# EAGLE library part M50-3500542 (library Custom Libary v23)
Header 2x5way DIL VERT Pin HARWIN M50-35 Series, 1.27mm Pitch 10 Way 2 Row Straight PCB Header, Solder Termination, 1A Source: Datasheet <https://datasheet.datasheetarchive.com/originals/distributors/SFDatasheet-1/sf-00022684.pdf>
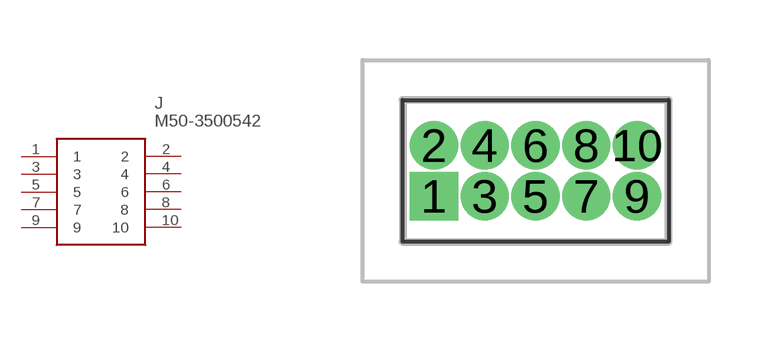
[diagram p0: symbol with the pads of M503500542; footprint M503500542]

Designator prefix J

## M50-3500542 (DESCRIPTION: Header 2x5way DIL VERT Pin HARWIN M50-35 Series, 1.27mm Pitch 10 Way 2 Row Straight PCB Header, Solder Termination, 1A; HEIGHT: 4.15mm; MANUFACTURER_NAME: Harwin; MANUFACTURER_PART_NUMBER: M50-3500542; MOUSER_PART_NUMBER: 855-M50-3500542; MOUSER_PRICE-STOCK: https://www.mouser.co.uk/ProductDetail/Harwin/M50-3500542?qs=9fQaSFfsqsyXI0P9tFOVoQ%3D%3D)  [M503500542]
1  1
2  2
3  3
4  4
5  5
6  6
7  7
8  8
9  9
10  10

## Footprint M503500542 (pad centres in mm)
M50-3500542
drill 0.7 pad 1.1 square: 1 0,0
drill 0.7 pad 1.1: 2 0,1.27; 3 1.27,0; 4 1.27,1.27; 5 2.54,0; 6 2.54,1.27; 7 3.81,0; 8 3.81,1.27; 9 5.08,0; 10 5.08,1.27